# EAGLE library part VHB200W-Q24-S12 (library VHB200W-Q24-S12)
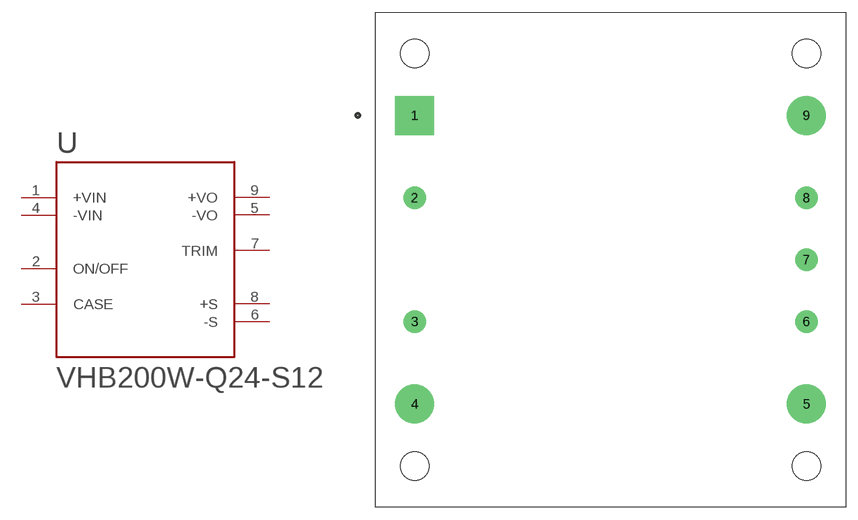
[diagram p0: symbol with the pads of CONV_VHB200W-Q24-S12; footprint CONV_VHB200W-Q24-S12]

Designator prefix U

## VHB200W-Q24-S12 (MANUFACTURER: CUI INC; PARTREV: 1.06; STANDARD: MANUFACTURER RECOMMENDATIONS)  [CONV_VHB200W-Q24-S12]
1  +VIN  in
2  ON/OFF  in
3  CASE  pas
4  -VIN  in
5  -VO  out
6  -S  out
7  TRIM  pas
8  +S  out
9  +VO  out

## Footprint CONV_VHB200W-Q24-S12 (pad centres in mm)
drill 2.4 pad 4.8 square: 1 -24.125,17.78
drill 1.4 pad 2.8: 2 -24.125,7.62; 3 -24.125,-7.62; 6 24.125,-7.62; 7 24.125,0; 8 24.125,7.62
drill 2.4 pad 4.8: 4 -24.125,-17.78; 5 24.125,-17.78; 9 24.125,17.78
hole 3.5 at -24.125,25.4
hole 3.5 at 24.125,25.4
hole 3.5 at 24.125,-25.4
hole 3.5 at -24.125,-25.4